# Altium footprint library PLib.PcbLib: 32 footprints (part 2 of 2)
Each footprint in its own frame and in the unit in brackets; x right, y up, seen from the top. Pads: shape width x height; smd on the part's side, far side on the other; paste and mask are expansions set on the pad; w line width, h text height; cw(c..) or ccw(c..) is an arc to the next point about the centre after c.
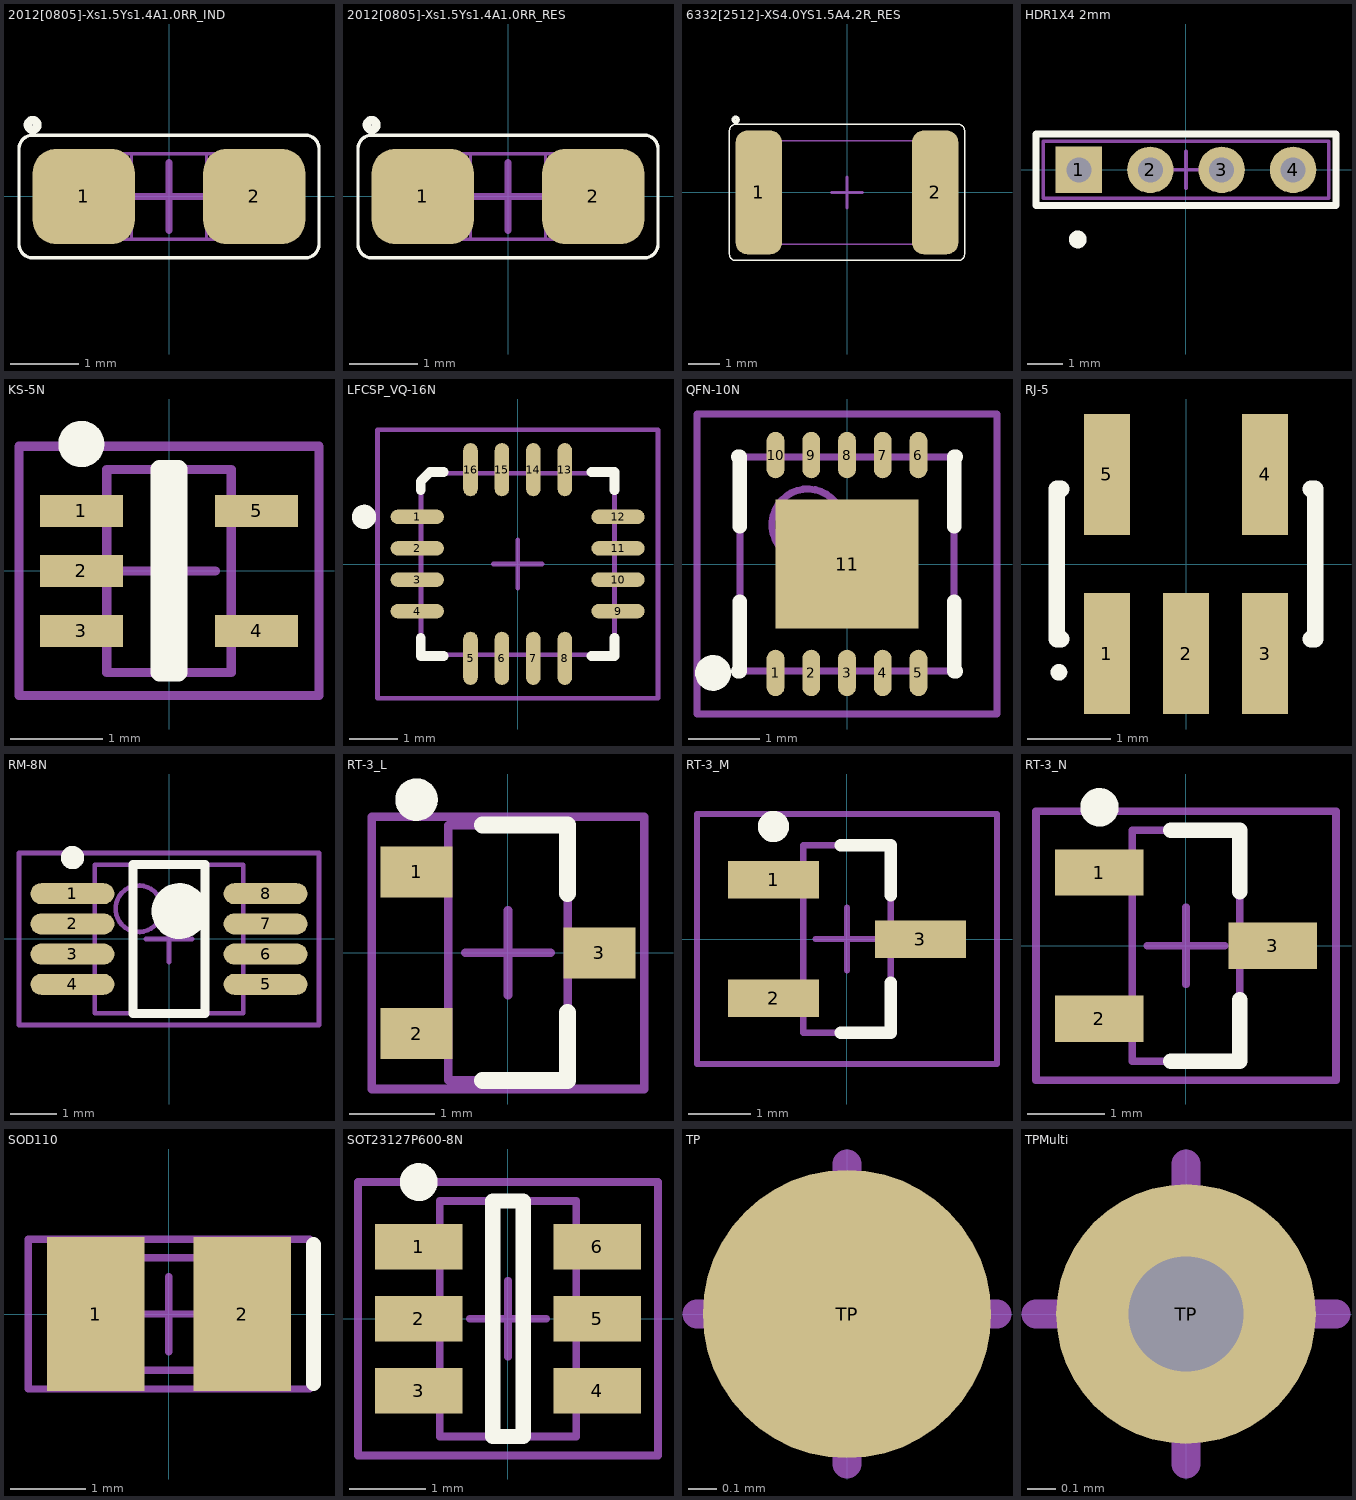
[diagram p1: the footprints below, top view; thin cyan lines are the x and y axes]

## 2012[0805]-Xs1.5Ys1.4A1.0RR_IND [mm] "Chip; Body 2.0 x 1.3 mm (LxW typ)"
height 0.5
pads (2):
  rrect50% 1.5x1.4 smd mask+0.1: 1(-1.25,0) 2(1.25,0)
Top Overlay:
  circle w0.125: c-2,1.05 r0.07
  lines w0.05: -2.2,-0.7 ccw(c-2,-0.7) -2,-0.9 2,-0.9 ccw(c2,-0.7) 2.2,-0.7 2.2,0.7 ccw(c2,0.7) 2,0.9 -2,0.9 ccw(c-2,0.7) -2.2,0.7 -2.2,-0.7
Mechanical 13:
  lines w0.05: -0.555,-0.625 0.55,-0.625 ; -0.55,0.625 0.55,0.625 ; -0.55,0.625 -0.55,0.625 ; -0.55,0.625 -0.55,-0.625 -1,-0.625 -1,0.625 -0.55,0.625 ; 0.55,-0.625 1,-0.625 1,0.625 0.55,0.625 ; 0.55,-0.625 0.55,0.625
Mechanical 15:
  lines w0.1: -0.5,0 0.5,0 ; 0,-0.5 0,0.5
3D body: height 0.5, standoff 0, extent 0.55,-0.625 1,0.625
3D body: height 0.5, standoff 0, extent -1,-0.625 -0.55,0.625
3D body: height 0.5, standoff 0, extent -0.55,-0.625 0.55,0.625

## 2012[0805]-Xs1.5Ys1.4A1.0RR_RES [mm] "Chip; Body 2.0 x 1.3 mm (LxW typ)"
height 0.5
pads (2):
  rrect50% 1.5x1.4 smd mask+0.1: 1(-1.25,0) 2(1.25,0)
Top Overlay:
  circle w0.125: c-2,1.05 r0.07
  lines w0.05: -2.2,-0.7 ccw(c-2,-0.7) -2,-0.9 2,-0.9 ccw(c2,-0.7) 2.2,-0.7 2.2,0.7 ccw(c2,0.7) 2,0.9 -2,0.9 ccw(c-2,0.7) -2.2,0.7 -2.2,-0.7
Mechanical 13:
  lines w0.05: -0.555,-0.625 0.55,-0.625 ; -0.55,0.625 -1,0.625 -1,-0.625 -0.55,-0.625 -0.55,0.625 ; -0.55,0.625 -0.55,0.625 ; -0.55,0.625 0.55,0.625 ; 0.55,-0.625 0.55,0.625 ; 0.55,-0.625 1,-0.625 1,0.625 0.55,0.625
Mechanical 15:
  lines w0.1: -0.5,0 0.5,0 ; 0,-0.5 0,0.5
3D body: height 0.5, standoff 0, extent -1,-0.625 -0.55,0.625
3D body: height 0.5, standoff 0, extent 0.55,-0.625 1,0.625
3D body: height 0.5, standoff 0, extent -0.55,-0.625 0.55,0.625

## 6332[2512]-XS4.0YS1.5A4.2R_RES [mm] "Chip Resistor, Body 6.3x3.2mm, IPC High Density"
height 0.9
pads (2):
  rrect50% 1.5x4 smd mask+0.1: 1(-2.85,0) 2(2.85,0)
Top Overlay:
  circle w0.125: c-3.6,2.35 r0.07
  lines w0.05: -3.8,-2 ccw(c-3.6,-2) -3.6,-2.2 3.6,-2.2 ccw(c3.6,-2) 3.8,-2 3.8,2 ccw(c3.6,2) 3.6,2.2 -3.6,2.2 ccw(c-3.6,2) -3.8,2 -3.8,-2
Mechanical 13:
  lines w0.05: -3.225,-1.675 3.225,-1.675 3.225,1.675 -3.225,1.675 -3.225,-1.675
Mechanical 15:
  lines w0.1: -0.5,0 0.5,0 ; 0,-0.5 0,0.5
3D body: height 0.9, standoff 0, extent -3.225,-1.675 3.225,1.675

## HDR1X4 2mm [mm] "Connector; Header; 4x1 Position"
pads (4):
  rect 1.3x1.3 hole 0.7 mask+0.1: 1(-3,0)
  round 1.3 hole 0.7 mask+0.1: 2(-1,0) 3(1,0) 4(3,0)
Top Overlay:
  circle w0.25: c-3.03,-1.95 r0.125
  lines w0.2: -4.2,-1 4.2,-1 4.2,1 -4.2,1 -4.2,-1
Bottom Overlay:
  circle w0.25: c-3.03,-1.95 r0.125
  lines w0.2: -4.2,-1 -4.2,1 4.2,1 4.2,-1 -4.2,-1
Mechanical 13:
  lines w0.1: -4,-0.8 -4,0.8 4,0.8 4,-0.8 -4,-0.8
Mechanical 15:
  lines w0.1: -0.52,0 0,0 ; 0,-0.52 0,0 ; 0,0.52 0,0 ; 0.52,0 0,0

## KS-5N [mm] "5-Lead Thin Shrink Small Outline Transistor Package [SC70] (KS-5), Pitch 0,65mm, IPC Medium Density"
height 1.1
pads (5):
  rect 0.9x0.35 smd: 1(-0.95,0.65) 2(-0.95,0) 3(-0.95,-0.65) 4(0.95,-0.65) 5(0.95,0.65)
Top Overlay:
  circle w0.25: c-0.95,1.375 r0.125
  lines w0.2: -0.1,-1.1 0.1,-1.1 0.1,1.1 -0.1,1.1 -0.1,-1.1
Mechanical 13:
  lines w0.1: -0.675,-1.1 -0.675,1.1 0.675,1.1 0.675,-1.1 -0.675,-1.1
Mechanical 15:
  lines w0.1: -0.5,0 0.5,0 ; 0,-0.5 0,0.5 ; -1.625,-1.35 -1.625,1.35 1.625,1.35 1.625,-1.35 -1.625,-1.35
3D body: height 1.1, standoff 0.1, extent -0.675,-1.1 0.675,1.1

## LFCSP_VQ-16N [mm] "16-Lead Lead Frame Chip Scale Package [LFCSP_VQ] 4 mm x 4 mm Body, Very Thin Quad, Pitch 0,65mm, IPC Medium Density"
height 1
pads (16):
  oval 1.1x0.3 smd: 1(-2.075,0.975) 2(-2.075,0.325) 3(-2.075,-0.325) 4(-2.075,-0.975) 9(2.075,-0.975) 10(2.075,-0.325) 11(2.075,0.325) 12(2.075,0.975)
  oval 0.3x1.1 smd: 5(-0.975,-1.95) 6(-0.325,-1.95) 7(0.325,-1.95) 8(0.975,-1.95) 13(0.975,1.95) 14(0.325,1.95) 15(-0.325,1.95) 16(-0.975,1.95)
Top Overlay:
  circle w0.25: c-3.175,0.975 r0.125
  lines w0.2: -2,-1.525 -2,-1.9 -1.525,-1.9 ; -2,1.525 -2,1.713 -1.813,1.9 -1.525,1.9 ; 1.525,-1.9 2,-1.9 2,-1.525 ; 1.525,1.9 2,1.9 2,1.525
Mechanical 13:
  lines w0.1: -2,-1.875 -2,1.688 -1.813,1.875 2,1.875 2,-1.875 -2,-1.875
Mechanical 15:
  lines w0.1: -0.5,0 0.5,0 ; 0,-0.5 0,0.5 ; -2.9,-2.775 -2.9,2.775 2.9,2.775 2.9,-2.775 -2.9,-2.775
3D body: height 1, standoff 0, extent -2,-1.875 2,1.875

## QFN-10N [mm] "10-Lead Lead Frame Chip Scale Package [QFN (LFCSP_WD)] 3 mm x 3 mm Body, Very Very Thin, Dual Lead, Pitch 0,50mm, IPC Medium Density"
height 0.8
pads (11):
  oval 0.25x0.65 smd: 1(-1,-1.525) 2(-0.5,-1.525) 3(0,-1.525) 4(0.5,-1.525) 5(1,-1.525) 6(1,1.525) 7(0.5,1.525) 8(0,1.525) 9(-0.5,1.525) 10(-1,1.525)
  rect 2x1.8 smd: 11(0,0)
Top Overlay:
  circle w0.25: c-1.875,-1.525 r0.125
  lines w0.2: -1.525,-1.5 -1.5,-1.5 -1.5,-0.525 ; -1.525,1.5 -1.5,1.5 -1.5,0.525 ; 1.5,-0.525 1.5,-1.5 1.525,-1.5 ; 1.5,0.525 1.5,1.5 1.525,1.5
Mechanical 13:
  circle w0.1: c-0.55,0.55 r0.5
  lines w0.1: -1.5,-1.5 -1.5,1.5 1.5,1.5 1.5,-1.5 -1.5,-1.5
Mechanical 15:
  lines w0.1: -0.5,0 0.5,0 ; 0,-0.5 0,0.5 ; -2.1,-2.1 -2.1,2.1 2.1,2.1 2.1,-2.1 -2.1,-2.1
3D body: height 0.8, standoff 0.05, extent -1.5,-1.5 1.5,1.5

## RJ-5 [mm] "SOT-23/SC-74A; 5 Leads; Body 3.1 x 3 mm, inc. leads (LxW max)"
height 1.45
pads (5):
  rect 0.55x1.45 smd: 1(-0.95,-1.075) 2(0,-1.075) 3(0.95,-1.075) 4(0.95,1.075) 5(-0.95,1.075)
Top Overlay:
  circle w0.1: c-1.525,-1.3 r0.05
  lines w0.2: -1.5,-0.9 -1.55,-0.9 -1.55,0.9 -1.5,0.9 ; 1.5,-0.9 1.55,-0.9 1.55,0.9 1.5,0.9

## RM-8N [mm] "8-Lead Mini Small Outline Package [MSOP] (RM-8), Pitch 0,65mm, IPC Medium Density"
height 1.1
pads (8):
  oval 1.8x0.45 smd: 1(-2.075,0.975) 2(-2.075,0.325) 3(-2.075,-0.325) 4(-2.075,-0.975) 5(2.075,-0.975) 6(2.075,-0.325) 7(2.075,0.325) 8(2.075,0.975)
Top Overlay:
  circle w0.25: c-2.075,1.75 r0.125
  circle w0.6: c0.225,0.6 r0.3
  lines w0.2: -0.775,-1.6 -0.775,1.6 0.775,1.6 0.775,-1.6 -0.775,-1.6
Mechanical 13:
  circle w0.1: c-0.65,0.65 r0.5
  lines w0.1: -1.6,-1.6 -1.6,1.6 1.6,1.6 1.6,-1.6 -1.6,-1.6
Mechanical 15:
  lines w0.1: -0.5,0 0.5,0 ; 0,-0.5 0,0.5 ; -3.225,-1.85 -3.225,1.85 3.225,1.85 3.225,-1.85 -3.225,-1.85
3D body: height 1.1, standoff 0.15, extent -1.6,-1.6 1.6,1.6

## RT-3_L [mm] "SOT23, 3-Leads, Body 2.9x1.3mm, Pitch 0.95mm, Lead Span 2.4mm, IPC High Density"
height 1.12
pads (3):
  rect 0.85x0.6 smd: 1(-1.075,0.95) 2(-1.075,-0.95) 3(1.075,0)
Top Overlay:
  circle w0.25: c-1.075,1.8 r0.125
  lines w0.2: -0.3,-1.5 0.7,-1.5 0.7,-0.7 ; -0.3,1.5 0.7,1.5 0.7,0.7
Mechanical 13:
  lines w0.1: -0.7,-1.5 0.7,-1.5 0.7,1.5 -0.7,1.5 -0.7,-1.5
Mechanical 15:
  lines w0.1: -0.5,0 0.5,0 ; 0,-0.5 0,0.5 ; -1.6,-1.6 1.6,-1.6 1.6,1.6 -1.6,1.6 -1.6,-1.6
3D body: height 1.12, standoff 0, extent -0.7,-1.5 0.7,1.5

## RT-3_M [mm] "SOT23, 3-Leads, Body 2.9x1.3mm, Pitch 0.95mm, Lead Span 2.4mm, IPC Low Density"
height 1.12
pads (3):
  rect 1.45x0.6 smd: 1(-1.175,0.95) 2(-1.175,-0.95) 3(1.175,0)
Top Overlay:
  circle w0.25: c-1.175,1.8 r0.125
  lines w0.2: -0.1,-1.5 0.7,-1.5 0.7,-0.7 ; -0.1,1.5 0.7,1.5 0.7,0.7
Mechanical 13:
  lines w0.1: -0.7,-1.5 0.7,-1.5 0.7,1.5 -0.7,1.5 -0.7,-1.5
Mechanical 15:
  lines w0.1: -0.5,0 0.5,0 ; 0,-0.5 0,0.5 ; -2.4,-2 2.4,-2 2.4,2 -2.4,2 -2.4,-2
3D body: height 1.12, standoff 0, extent -0.7,-1.5 0.7,1.5

## RT-3_N [mm] "SOT23, 3-Leads, Body 2.9x1.3mm, Pitch 0.95mm, Lead Span 2.4mm, IPC Medium Density"
height 1.12
pads (3):
  rect 1.15x0.6 smd: 1(-1.125,0.95) 2(-1.125,-0.95) 3(1.125,0)
Top Overlay:
  circle w0.25: c-1.125,1.8 r0.125
  lines w0.2: -0.2,-1.5 0.7,-1.5 0.7,-0.7 ; -0.2,1.5 0.7,1.5 0.7,0.7
Mechanical 13:
  lines w0.1: -0.7,-1.5 -0.7,1.5 0.7,1.5 0.7,-1.5 -0.7,-1.5
Mechanical 15:
  lines w0.1: -0.5,0 0.5,0 ; 0,-0.5 0,0.5 ; -1.95,-1.75 -1.95,1.75 1.95,1.75 1.95,-1.75 -1.95,-1.75
3D body: height 1.12, standoff 0, extent -0.7,-1.5 0.7,1.5

## SOD110 [mm] "Molded Diode, 2-Leads, Body 2,1x1,4mm, IPC Medium Density"
height 1.6
pads (2):
  rect 1.3x2.05 smd: 1(-0.975,0) 2(0.975,0)
Top Overlay:
  lines w0.2: 1.925,-0.925 1.925,0.925
Mechanical 13:
  rectangle: 0.804,-0.75 1.1,0.75
  lines w0.1: -1.1,-0.75 -1.1,0.75 1.1,0.75 1.1,-0.75 -1.1,-0.75
Mechanical 15:
  lines w0.1: -0.5,0 0.5,0 ; 0,-0.5 0,0.5 ; -1.875,-1 -1.875,1 1.875,1 1.875,-1 -1.875,-1
3D body: height 1.6, standoff 0, extent -1.1,-0.75 1.1,0.75

## SOT23127P600-8N [mm] "SOT23-6"
height 1.45
pads (6):
  rect 1.15x0.6 smd: 1(-1.175,0.95) 2(-1.175,0) 3(-1.175,-0.95) 4(1.175,-0.95) 5(1.175,0) 6(1.175,0.95)
Top Overlay:
  circle w0.25: c-1.175,1.8 r0.125
  lines w0.2: -0.2,-1.55 0.2,-1.55 0.2,1.55 -0.2,1.55 -0.2,-1.55
Mechanical 13:
  lines w0.1: -0.9,-1.55 -0.9,1.55 0.9,1.55 0.9,-1.55 -0.9,-1.55
Mechanical 15:
  lines w0.1: -0.5,0 0.5,0 ; 0,-0.5 0,0.5 ; -1.975,-1.8 -1.975,1.8 1.975,1.8 1.975,-1.8 -1.975,-1.8
3D body: height 1.45, standoff 0.15, extent -0.9,-1.55 0.9,1.55

## TP [mm] "Test point"
pads (1):
  round 1 smd mask+0.1: TP(0,0)
Mechanical 15:
  lines w0.1: -0.52,0 0,0 ; 0,-0.52 0,0 ; 0,0.52 0,0 ; 0.52,0 0,0

## TPMulti [mm] "Test point"
pads (1):
  round 0.9 hole 0.4 mask+0.1: TP(0,0)
Mechanical 15:
  lines w0.1: -0.52,0 0,0 ; 0,-0.52 0,0 ; 0,0.52 0,0 ; 0.52,0 0,0